# EAGLE library part TL431-SMD (library TABOR K1)
Lineárny regulátor prudu od 1mA do 100mA - TL431 v SMD prevedeni
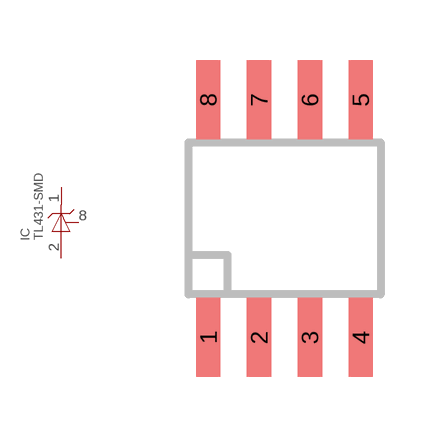
[diagram p48: symbol with the pads of SO08; footprint SO08]

Designator prefix IC

## TL431-SMDSO08-SMD  [SO08]
1  K  pas
2  A  pas
3  A  pas
4  NC4  nc
5  NC5  nc
6  A  pas
7  A  pas
8  REF  pas

## Footprint SO08 (pad centres in mm)
Puzdro SO08 : cinova ploska = 0,86 mm
smd 0.61 x 1.981: 1 -1.905,-2.972; 2 -0.635,-2.972; 3 0.635,-2.972; 4 1.905,-2.972; 5 1.905,2.972; 6 0.635,2.972; 7 -0.635,2.972; 8 -1.905,2.972